# Altium schematic symbol library JFD_Cap.SchLib: 18 symbols
Pins are listed as number, name and electrical type; pins without a type are passive.

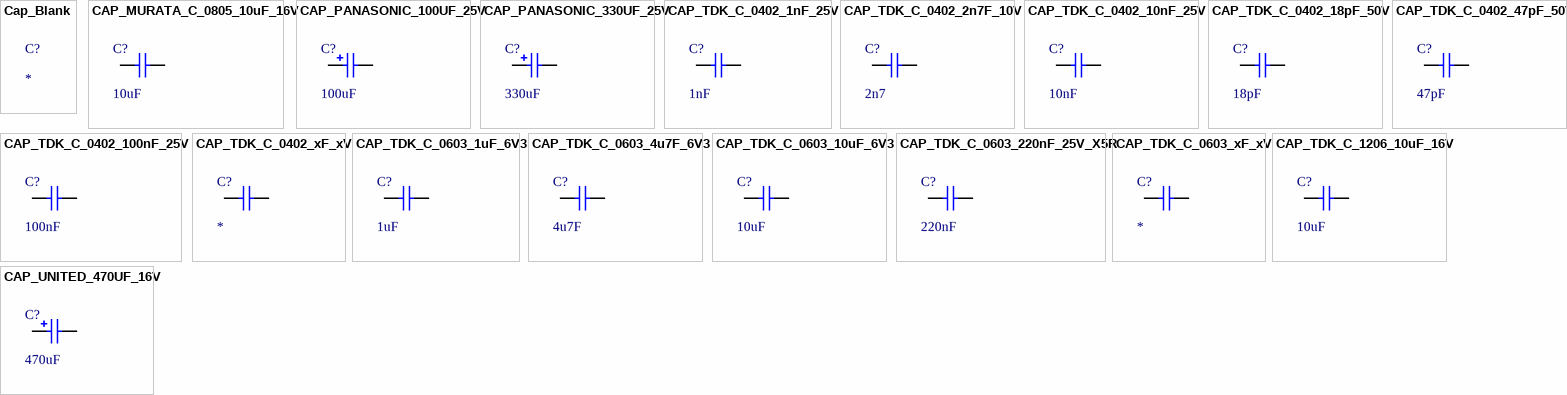
[diagram p0: symbols Cap_Blank to CAP_UNITED_470UF_16V]

## Cap_Blank
designator C?
Mfg: *; MfgPartNumber: *; Value: *; Digikey: *

## CAP_MURATA_C_0805_10uF_16V
designator C?, comment 10uF
CAP CER 10UF 16V Y5V 0805; MfgPartNumber: GRM21BF51C106ZE15L; Mfg: Murata; Digikey: 490-3347-1-ND; Value: 10uF
footprint 0805C
pins: 1, 2

## CAP_PANASONIC_100UF_25V
designator C?, comment 100uF
CAP ALUM 100UF 25V 20% SMD; MfgPartNumber: EEE-FK1E101XP; Mfg: Panasonic - ECG; Digikey: PCE3797CT-ND; Value: 100uF
footprint CAP_PANA_D_D8
pins: A 1, K 2

## CAP_PANASONIC_330UF_25V
designator C?, comment 330uF
CAP ALUM 330UF 25V 20% RADIAL; MfgPartNumber: EEU-FR1E331; Mfg: Panasonic - ECG; Digikey: P14415-ND; Value: 330uF
footprint ALU_8MM_3MM5 (Dia 8mm, Lead spacing 3.5mm)
pins: 1, 2

## CAP_TDK_C_0402_1nF_25V
designator C?, comment 1nF
CAP CER 1000PF 25V 10% X7R 0402; MfgPartNumber: C1005X7R1E102K; Mfg: TDK; Digikey: 445-4924-1-ND; Value: 1nF
footprint 0402C (0402)
pins: 1, 2

## CAP_TDK_C_0402_2n7F_10V
designator C?, comment 2n7
CAP CER 2700PF 10V 5% SL 0402; MfgPartNumber: C1005SL1A272J; Mfg: TDK; Digikey: 445-2661-1-ND; Value: 2n7
footprint 0402C (0402)
pins: 1, 2

## CAP_TDK_C_0402_10nF_25V
designator C?, comment 10nF
CAP CER 10000PF 25V 10% X7R 0402; MfgPartNumber: C1005X7R1E103K; Mfg: TDK; Digikey: 445-1260-1-ND; Value: 10nF
footprint 0402C (0402)
pins: 1, 2

## CAP_TDK_C_0402_18pF_50V
designator C?, comment 18pF
CAP CER 18PF 50V 5% NP0 0402; MfgPartNumber: C1005C0G1H180J; Mfg: TDK; Digikey: 445-1238-1-ND; Value: 18pF
footprint 0402C (0402)
pins: 1, 2

## CAP_TDK_C_0402_47pF_50V
designator C?, comment 47pF
CAP CER 47PF 50V 5% NP0 0402; MfgPartNumber: CGA2B2C0G1H470J; Mfg: TDK; Digikey: 445-5592-1-ND; Value: 47pF
footprint 0402C (0402)
pins: 1, 2

## CAP_TDK_C_0402_100nF_25V
designator C?, comment 100nF
CAP CER 0.1UF 25V Y5V 0402; MfgPartNumber: C1005Y5V1E104Z; Mfg: TDK; Digikey: 445-3445-1-ND; Value: 100nF
footprint 0402C (0402)
pins: 1, 2

## CAP_TDK_C_0402_xF_xV
designator C?
Mfg: TDK; MfgPartNumber: *; Digikey: *; Value: *
footprint 0402C (0402)
pins: 1, 2

## CAP_TDK_C_0603_1uF_6V3
designator C?, comment 1uF
CAP CER 1UF 6.3V 10% X5R 0603; MfgPartNumber: C1608X5R0J105K; Mfg: TDK; Digikey: 445-1322-1-ND; Value: 1uF
footprint 0603C (0603)
pins: 1, 2

## CAP_TDK_C_0603_4u7F_6V3
designator C?, comment 4u7F
CAP CER 4.7UF 6.3V Y5V 0603; MfgPartNumber: C1608Y5V0J475Z; Mfg: TDK; Digikey: 445-3449-1-ND; Value: 4u7F
footprint 0603C (0603)
pins: 1, 2

## CAP_TDK_C_0603_10uF_6V3
designator C?, comment 10uF
CAP CER 10UF 6.3V 20% X5R 0603; MfgPartNumber: C1608X5R0J106M; Mfg: TDK; Digikey: 445-4112-1-ND; Value: 10uF
footprint 0603C (0603)
pins: 1, 2

## CAP_TDK_C_0603_220nF_25V_X5R
designator C?, comment 220nF
CAP CER 0.22UF 25V 10% X5R 0603; MfgPartNumber: C1608X5R1E224K; Mfg: TDK; Digikey: 445-5140-1-ND; Value: 220nF
footprint 0603C (0603)
pins: 1, 2

## CAP_TDK_C_0603_xF_xV
designator C?
Mfg: TDK; MfgPartNumber: *; Digikey: *; Value: *
footprint 0603C (0603)
pins: 1, 2

## CAP_TDK_C_1206_10uF_16V
designator C?, comment 10uF
CAP CER 10UF 16V 20% X5R 1206; MfgPartNumber: C3216X5R1C106M; Mfg: TDK; Digikey: 445-1426-1-ND; Value: 10uF
footprint 1206C (1206)
pins: 1, 2

## CAP_UNITED_470UF_16V
designator C?, comment 470uF
CAP ALUM 470UF 16V 20% RADIAL; MfgPartNumber: EKY-160ELL471MH15D; Mfg: Panasonic - ECG; Digikey: 565-1524-ND; Value: 470uF
footprint CAP_8D_15H_3_5mm
pins: A 1, K 2